# EAGLE library part PORT_EXPANSION_COCO (library coco)
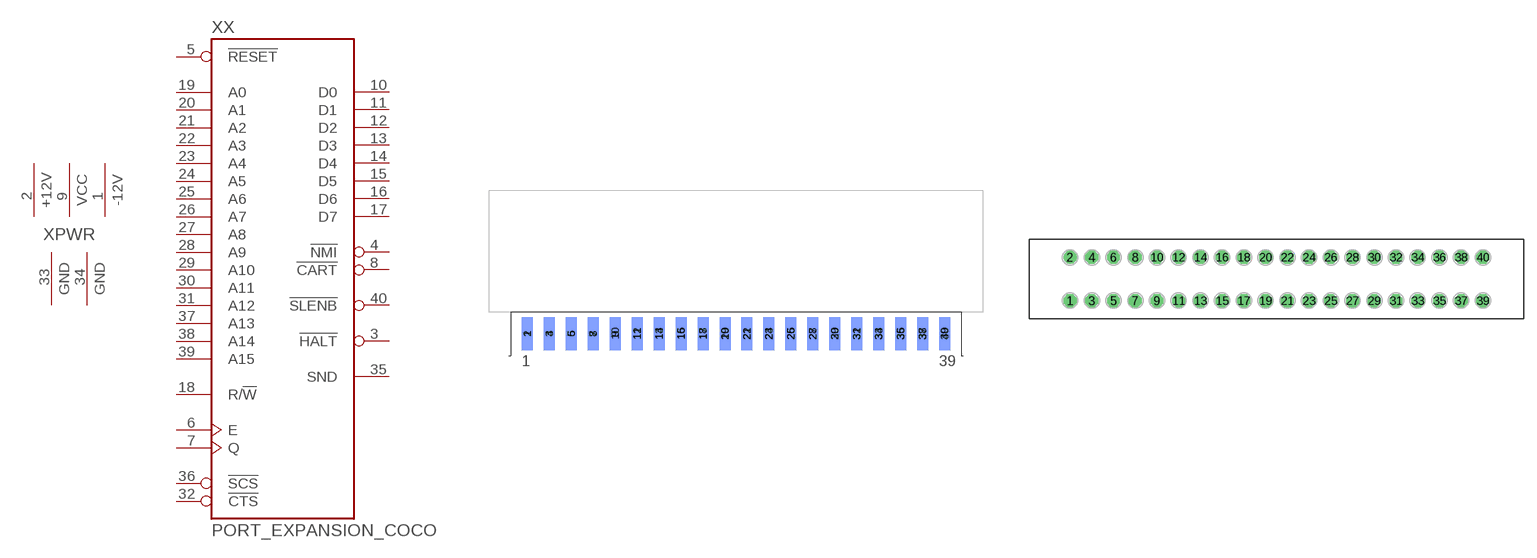
[diagram p0: symbol with the pads of MA20-2_100_SHORT; footprints MA20-2_100_SHORT, FE20-2_100]

Designator prefix X; gates X=PORT_EXPANSION_COCO PWR=PWR3-GND2

## PORT_EXPANSION_COCOS  [MA20-2_100_SHORT]
1  PWR:-12V  pwr
2  PWR:+12V  pwr
3  X:!HALT  oc
4  X:!NMI  oc
5  X:!RESET  oc
6  X:E  out
7  X:Q  out
8  X:!CART  oc
9  PWR:VCC  pwr
10  X:D0
11  X:D1
12  X:D2
13  X:D3
14  X:D4
15  X:D5
16  X:D6
17  X:D7
18  X:R/!W  out
19  X:A0  out
20  X:A1  out
21  X:A2  out
22  X:A3  out
23  X:A4  out
24  X:A5  out
25  X:A6  out
26  X:A7  out
27  X:A8  out
28  X:A9  out
29  X:A10  out
30  X:A11  out
31  X:A12  out
32  X:!CTS  out
33  PWR:GND  pwr
34  PWR:GND  pwr
35  X:SND  pas
36  X:!SCS  out
37  X:A13  out
38  X:A14  out
39  X:A15  out
40  X:!SLENB  oc

## PORT_EXPANSION_COCOM  [FE20-2_100]
Pads as for MA20-2_100_SHORT

## PORT_EXPANSION_COCO  [MA20-2_100]
Pads as for MA20-2_100_SHORT

## Footprint MA20-2_100_SHORT (pad centres in mm)
smd 1.27 x 3.81: 1 -24.13,0; 3 -21.59,0; 5 -19.05,0; 7 -16.51,0; 9 -13.97,0; 11 -11.43,0; 13 -8.89,0; 15 -6.35,0; 17 -3.81,0; 19 -1.27,0; 21 1.27,0; 23 3.81,0; 25 6.35,0; 27 8.89,0; 29 11.43,0; 31 13.97,0; 33 16.51,0; 35 19.05,0; 37 21.59,0; 39 24.13,0
smd 1.27 x 3.81 bottom: 2 -24.13,0; 4 -21.59,0; 6 -19.05,0; 8 -16.51,0; 10 -13.97,0; 12 -11.43,0; 14 -8.89,0; 16 -6.35,0; 18 -3.81,0; 20 -1.27,0; 22 1.27,0; 24 3.81,0; 26 6.35,0; 28 8.89,0; 30 11.43,0; 32 13.97,0; 34 16.51,0; 36 19.05,0; 38 21.59,0; 40 24.13,0

## Footprint FE20-2_100 (pad centres in mm)
drill 1 octagon: 1 -24.13,-2.54; 3 -21.59,-2.54; 4 -21.59,2.54; 5 -19.05,-2.54; 6 -19.05,2.54; 7 -16.51,-2.54; 8 -16.51,2.54; 9 -13.97,-2.54; 10 -13.97,2.54; 11 -11.43,-2.54; 12 -11.43,2.54; 13 -8.89,-2.54; 14 -8.89,2.54; 15 -6.35,-2.54; 16 -6.35,2.54; 17 -3.81,-2.54; 18 -3.81,2.54; 19 -1.27,-2.54; 20 -1.27,2.54; 21 1.27,-2.54; 22 1.27,2.54; 23 3.81,-2.54; 24 3.81,2.54; 25 6.35,-2.54; 26 6.35,2.54; 27 8.89,-2.54; 28 8.89,2.54; 29 11.43,-2.54; 30 11.43,2.54; 31 13.97,-2.54; 32 13.97,2.54; 33 16.51,-2.54; 34 16.51,2.54; 35 19.05,-2.54; 36 19.05,2.54; 37 21.59,-2.54; 38 21.59,2.54; 39 24.13,-2.54; 40 24.13,2.54
drill 1: 2 -24.13,2.54

## Footprint MA20-2_100 (pad centres in mm)
smd 1.27 x 8.89: 1 -24.13,-0.305; 3 -21.59,-0.305; 5 -19.05,-0.305; 7 -16.51,-0.305; 11 -11.43,-0.305; 13 -8.89,-0.305; 15 -6.35,-0.305; 17 -3.81,-0.305; 19 -1.27,-0.305; 21 1.27,-0.305; 23 3.81,-0.305; 25 6.35,-0.305; 27 8.89,-0.305; 29 11.43,-0.305; 31 13.97,-0.305; 33 16.51,-0.305; 35 19.05,-0.305; 37 21.59,-0.305; 39 24.13,-0.305
smd 1.27 x 8.89 bottom: 2 -24.13,-0.305; 4 -21.59,-0.305; 6 -19.05,-0.305; 8 -16.51,-0.305; 10 -13.97,-0.305; 12 -11.43,-0.305; 14 -8.89,-0.305; 16 -6.35,-0.305; 18 -3.81,-0.305; 20 -1.27,-0.305; 22 1.27,-0.305; 24 3.81,-0.305; 26 6.35,-0.305; 28 8.89,-0.305; 30 11.43,-0.305; 32 13.97,-0.305; 34 16.51,-0.305; 36 19.05,-0.305; 38 21.59,-0.305; 40 24.13,-0.305
smd 1.27 x 7.62: 9 -13.97,0.305